# EAGLE library part 7810-XPXC[RJ45] (library HokyoParts)
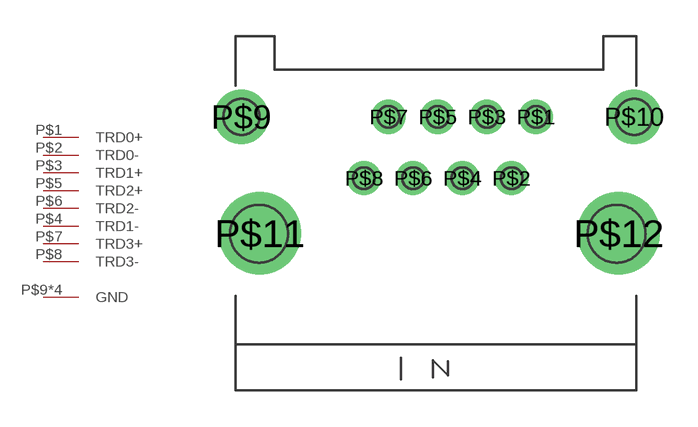
[diagram p4: symbol with the pads of 7810-XPXC[RJ45]; footprint 7810-XPXC[RJ45]]

Designator prefix -

## 7810-XPXC[RJ45]  [7810-XPXC[RJ45]]
P$1  TRD0+
P$2  TRD0-
P$3  TRD1+
P$4  TRD1-
P$5  TRD2+
P$6  TRD2-
P$7  TRD3+
P$8  TRD3-
P$9  GND
P$10  GND
P$11  GND
P$12  GND

## Footprint 7810-XPXC[RJ45] (pad centres in mm)
drill 0.9: P$1 -4.064,0; P$2 -5.08,-2.54; P$3 -6.096,0; P$4 -7.112,-2.54; P$5 -8.128,0; P$6 -9.144,-2.54; P$7 -10.16,0; P$8 -11.176,-2.54
drill 1.5: P$9 -16.256,0; P$10 0,0
drill 2.4: P$11 -15.494,-4.826; P$12 -0.635,-4.826